# EAGLE library part USB-TYPE-A (library lz-shield)
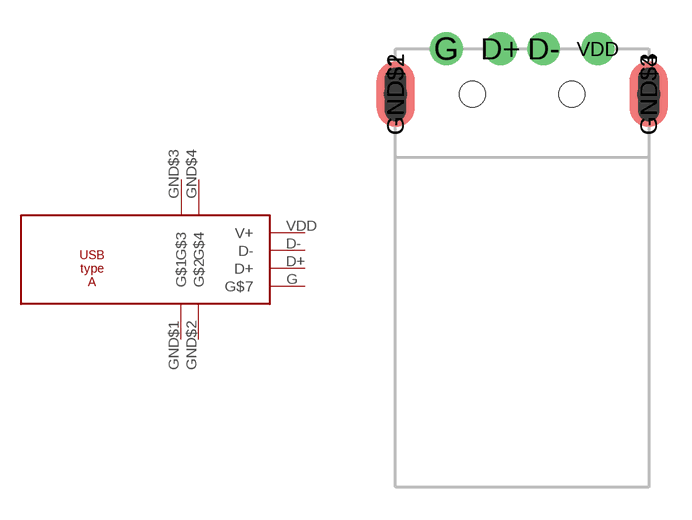
[diagram p6: symbol with the pads of UP2-AH-TH; footprint UP2-AH-TH]

Designator prefix -

## USB-TYPE-A  [UP2-AH-TH]
D+  D+
D-  D-
G  G$7  pwr
GND$1  G$1  pwr
GND$2  G$2  pwr
GND$3  G$3  pwr
GND$4  G$4  pwr
VDD  V+

## Footprint UP2-AH-TH (pad centres in mm)
drill 1: D+ -1,5; D- 1,5; G -3.5,5; VDD 3.5,5
smd 1.75 x 3: GND$1 -5.85,2.9; GND$4 5.85,2.9
smd 1.75 x 3 bottom: GND$2 -5.85,2.9; GND$3 5.85,2.9
hole 1.2 at -2.3,2.9
hole 1.2 at 2.3,2.9
hole 1 at -5.85,2.9
hole 1 at 5.85,2.9